# Altium schematic symbol library RC0603JR-0733KL.SchLib: 1 symbol
Pins are listed as number, name and electrical type; pins without a type are passive.

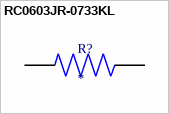
[diagram p0: symbol RC0603JR-0733KL]

## RC0603JR-0733KL
designator R?
THICK FILM RESISTOR, 33KOHM, 100mW, 5%; MP: RC0603JR-0733KL; Package: None; Price: None; Value: *; Availability: Unavailable
pins: 1, 2